# Altium footprint library B-NT_V.PcbLib: 24 footprints (part 1 of 2)
Each footprint in its own frame and in the unit in brackets; x right, y up, seen from the top. Pads: shape width x height; smd on the part's side, far side on the other; paste and mask are expansions set on the pad; w line width, h text height; cw(c..) or ccw(c..) is an arc to the next point about the centre after c.
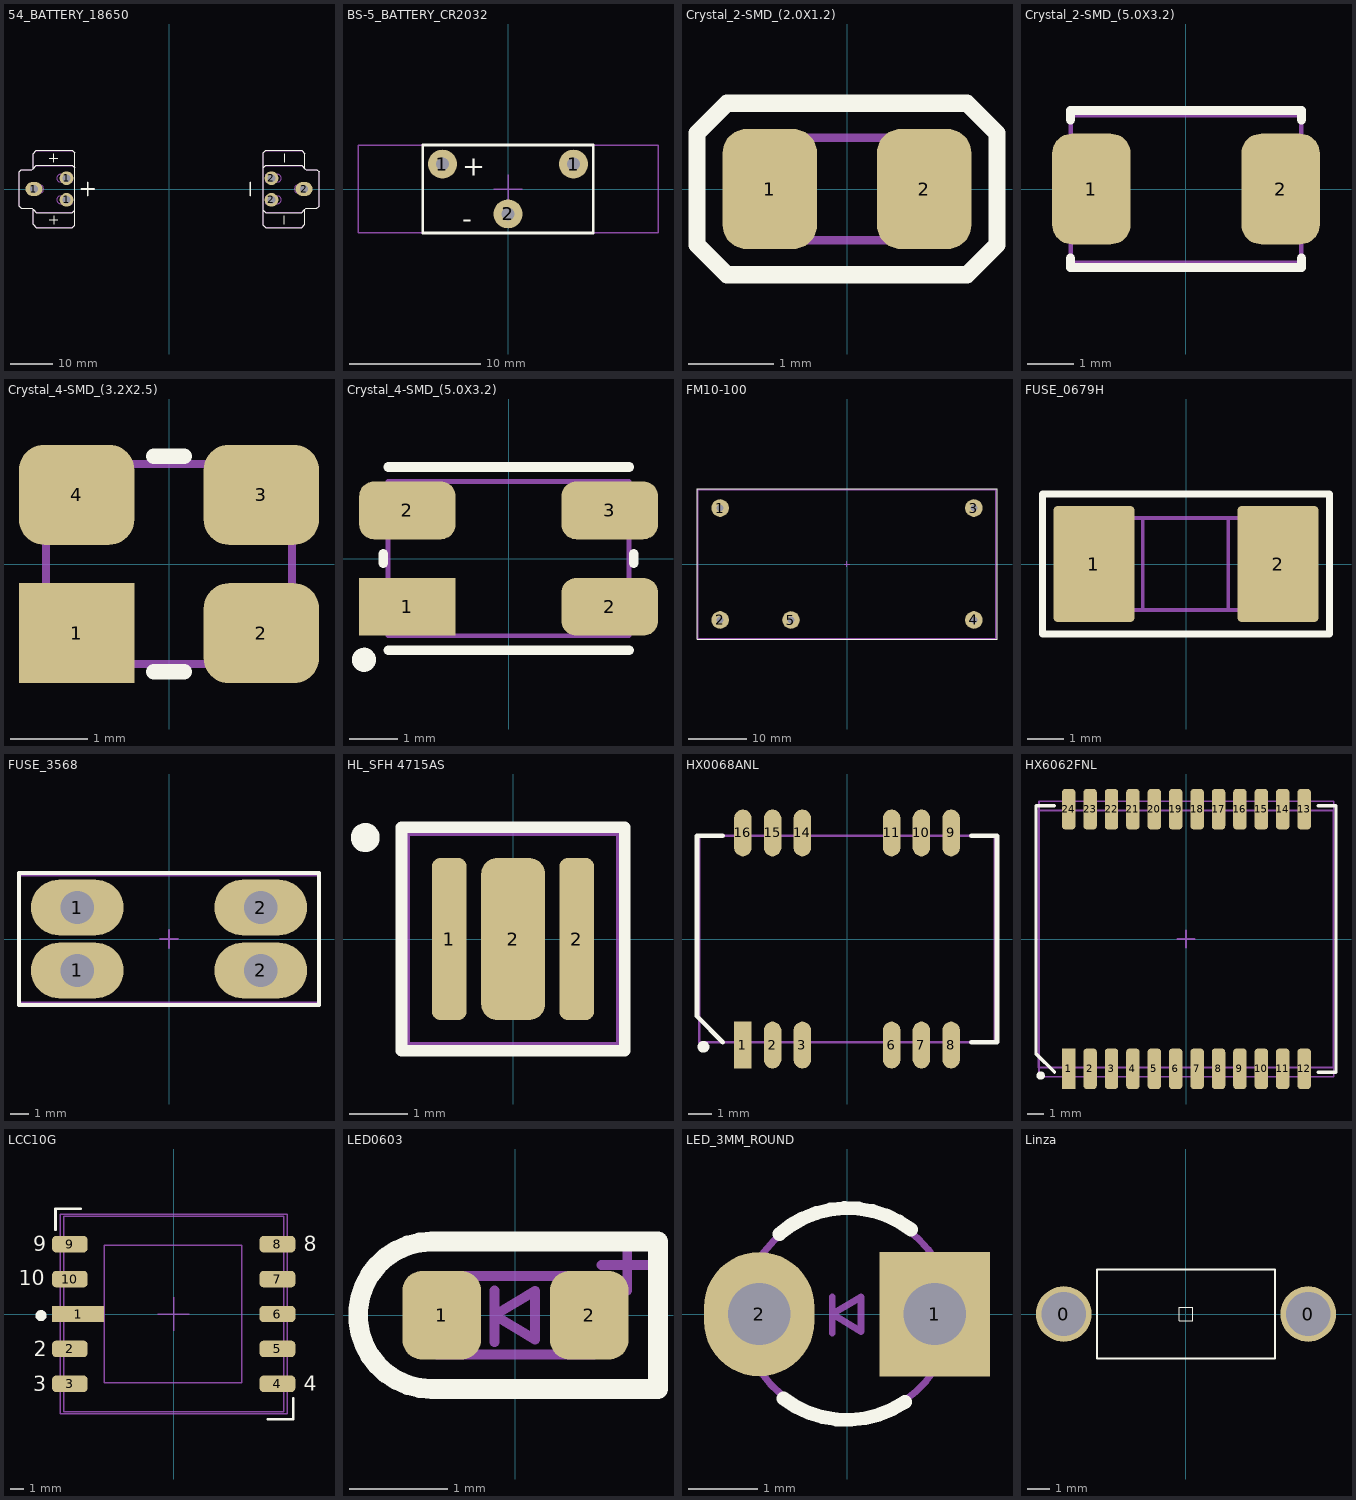
[diagram p0: the footprints below, top view; thin cyan lines are the x and y axes]

## 54_BATTERY_18650 [mm]
pads (6):
  oval 4x3.2 hole 1.8: 1(-31.62,0) 2(31.62,0)
  round 3.2 hole 1.8: 1(-24,-2.54) 1(-24,2.54) 2(24,-2.54) 2(24,2.54)
Top Overlay:
  lines w0.2: -28,-7.25 -26,-7.25 ; -28,7.25 -26,7.25 ; -27,-8.25 -27,-6.25 ; -27,6.25 -27,8.25 ; -22.12,-5 -22.671,-5.551 -31.069,-5.551 -31.82,-4.8 ; -22.12,5 -22.671,5.551 -31.069,5.551 -31.82,4.8 ; 22.12,-5 22.671,-5.551 31.069,-5.551 31.82,-4.8 ; 22.12,5 22.671,5.551 31.069,5.551 31.82,4.8 ; 27,-8.25 27,-6.25 ; 27,6.25 27,8.25 ; -31.82,-4.8 -32.12,-4.5 -34.62,-4.5 -35.127,-3.993 -35.127,3.993 -34.62,4.5 -32.12,4.5 -31.82,4.8 ; -31.82,-4.8 -31.82,-8.3 -31.069,-9.051 -22.671,-9.051 -22.12,-8.5 -22.12,8.5 -22.671,9.051 -31.069,9.051 -31.82,8.3 -31.82,4.8 ; 31.82,-4.8 32.12,-4.5 34.62,-4.5 35.127,-3.993 35.127,3.993 34.62,4.5 32.12,4.5 31.82,4.8 ; 31.82,-4.8 31.82,-8.3 31.069,-9.051 22.671,-9.051 22.12,-8.5 22.12,8.5 22.671,9.051 31.069,9.051 31.82,8.3 31.82,4.8
  lines w0.4: -20.5,0 -17.5,0 ; -19,-1.5 -19,1.5 ; 19,-1.5 19,1.5
M3 Top Assy:
  lines w0.1: -32.42,-0.9 -32.42,0.9 -32.92,0.9 ; -23.22,-1.64 -23.22,-3.44 -22.7,-3.44 ; -23.22,3.44 -23.22,1.64 -22.7,1.64 ; -22.12,-5 -22.62,-5.5 -31.12,-5.5 -31.82,-4.8 ; -22.12,5 -22.62,5.5 -31.12,5.5 -31.82,4.8 ; 22.12,-5 22.62,-5.5 31.12,-5.5 31.82,-4.8 ; 22.12,5 22.62,5.5 31.12,5.5 31.82,4.8 ; 23.22,-3.44 23.22,-1.64 22.7,-1.64 ; 23.22,1.64 23.22,3.44 22.7,3.44 ; 32.42,0.9 32.42,-0.9 32.92,-0.9 ; -32.92,0 -32.92,0 ; -32.92,0 -32.92,0.9 ; -32.92,0 -32.92,-0.9 -30.22,-0.9 ccw(c-30.22,0) -30.22,0.9 -32.92,0.9 ; -31.82,-4.8 -32.12,-4.5 -34.62,-4.5 -35.127,-3.993 -35.127,3.993 -34.62,4.5 -32.12,4.5 -31.82,4.8 ; -31.82,-4.8 -31.82,-8.3 -31.12,-9 -22.62,-9 -22.12,-8.5 -22.12,8.5 -22.62,9 -31.12,9 -31.82,8.3 -31.82,4.8 ; -22.7,-3.44 -22.7,-2.54 ; -22.7,-3.44 -25.4,-3.44 cw(c-25.4,-2.54) -25.4,-1.64 -22.7,-1.64 -22.7,-2.54 ; -22.7,-2.54 -22.7,-2.54 ; -22.7,1.64 -22.7,2.54 ; -22.7,1.64 -25.4,1.64 cw(c-25.4,2.54) -25.4,3.44 -22.7,3.44 -22.7,2.54 ; -22.7,2.54 -22.7,2.54 ; 22.7,-2.54 22.7,-2.54 ; 22.7,-2.54 22.7,-3.44 25.4,-3.44 ccw(c25.4,-2.54) 25.4,-1.64 22.7,-1.64 ; 22.7,-2.54 22.7,-1.64 ; 22.7,2.54 22.7,2.54 ; 22.7,2.54 22.7,1.64 25.4,1.64 ccw(c25.4,2.54) 25.4,3.44 22.7,3.44 ; 22.7,2.54 22.7,3.44 ; 31.82,-4.8 32.12,-4.5 34.62,-4.5 35.127,-3.993 35.127,3.993 34.62,4.5 32.12,4.5 31.82,4.8 ; 31.82,-4.8 31.82,-8.3 31.12,-9 22.62,-9 22.12,-8.5 22.12,8.5 22.62,9 31.12,9 31.82,8.3 31.82,4.8 ; 32.92,-0.9 30.22,-0.9 cw(c30.22,0) 30.22,0.9 32.92,0.9 32.92,0 ; 32.92,-0.9 32.92,0 ; 32.92,0 32.92,0
M8 Top Brd Anno:
  lines w0.1: -32.12,0 -31.12,0 ; -31.62,-0.5 -31.62,0.5 ; 31.12,0 32.12,0 ; 31.62,-0.5 31.62,0.5
3D body "User Library-18650 battery.step": height 19.37, standoff 1.17, extent -32.6,-9.1 32.55,9.1
3D body "keystone-PN54.STEP": height 18.4, standoff -2.95, extent -35.127,-9.051 -22.12,9.051
3D body "keystone-PN54.STEP": height 18.4, standoff -2.95, extent 22.12,-9.051 35.127,9.051

## BS-5_BATTERY_CR2032 [mm]
pads (3):
  round 2.2 hole 1: 1(-5,1.905) 1(5,1.905) 2(0,-1.905)
Top Overlay:
  lines w0.2: -6.5,-3.355 6.5,-3.355 6.5,3.355 -6.5,3.355 -6.5,-3.355
  text "+" at -3.5,1 h1.52
  text "-" at -3.5,-3 h1.52
M3 Top Assy:
  lines w0.1: -6.5,-3.355 -6.5,3.355 ; 6.5,-3.355 6.5,3.355 ; -11.45,-3.355 11.45,-3.355 11.45,3.355 -11.45,3.355 -11.45,-3.355
M8 Top Brd Anno:
  lines w0.1: -1.1,0 1.1,0 ; 0,-1.1 0,1.1 ; -11.45,-3.35 -11.45,3.35 11.45,3.35 11.45,-3.35 -11.45,-3.35
3D body "BS-5.STEP": height 17.88, standoff -3.38, extent -11.455,-3.38 11.455,3.325
3D body "CircuitWorks-BATT CR2032.step": height 26, standoff 6, extent -10,-1.2 10,2

## Crystal_2-SMD_(2.0X1.2) [mm] "Crystal (2.00mm x 1.20mm)"
pads (2):
  rrect50% 1.1x1.4 smd: 1(-0.9,0) 2(0.9,0)
Top Overlay:
  lines w0.2: -1.75,-0.65 -1.75,0.65 -1.4,1 1.4,1 1.75,0.65 1.75,-0.65 1.4,-1 -1.4,-1 -1.75,-0.65
M3 Top Assy:
  lines w0.1: -1,-0.6 1,-0.6 1,0.6 -1,0.6 -1,-0.6
3D body "ABS06.STEP": height 0.61, standoff 0, extent -1.003,-0.597 1.003,0.597

## Crystal_2-SMD_(5.0X3.2) [mm] "Crystal (5.00mm x 3.20mm)"
pads (2):
  rrect50% 1.7x2.4 smd: 1(-2.05,0) 2(2.05,0)
Top Overlay:
  lines w0.2: -2.5,-1.5 -2.5,-1.7 2.5,-1.7 2.5,-1.5 ; -2.5,1.5 -2.5,1.7 2.5,1.7 2.5,1.5
M3 Top Assy:
  lines w0.1: -2.5,-1.6 -2.5,1.6 2.5,1.6 2.5,-1.6 -2.5,-1.6
3D body "ABM3.STEP": height 1.3, standoff 0, extent -2.5,-1.6 2.5,1.6

## Crystal_4-SMD_(3.2X2.5) [mm] "Crystal (3.20mm x 2.50mm)"
pads (4):
  rect 1.5x1.3 smd: 1(-1.2,-0.9)
  rrect50% 1.5x1.3 smd: 2(1.2,-0.9) 3(1.2,0.9) 4(-1.2,0.9)
Top Overlay:
  lines w0.2: -0.2,-1.4 0.2,-1.4 ; -0.2,1.4 0.2,1.4
M3 Top Assy:
  lines w0.1: -1.6,-1.3 1.6,-1.3 1.6,1.3 -1.6,1.3 -1.6,-1.3
3D body "User Library-CTS.step": height 0.77, standoff 0, extent -1.6,-1.25 1.6,1.25

## Crystal_4-SMD_(5.0X3.2) [mm] "Crystal (5.00mm x 3.20mm)"
pads (4):
  rect 2x1.2 smd: 1(-2.1,-1)
  rrect50% 2x1.2 smd: 2(-2.1,1) 2(2.1,-1) 3(2.1,1)
Top Overlay:
  circle w0.25: c-3,-2.1 r0.125
  lines w0.2: -2.6,-0.1 -2.6,0.1 ; -2.5,-1.9 2.5,-1.9 ; -2.5,1.9 2.5,1.9 ; 2.6,-0.1 2.6,0.1
M3 Top Assy:
  lines w0.1: -2.5,-1.6 -2.5,1.6 2.5,1.6 2.5,-1.6 -2.5,-1.6
3D body "ABM3B.STEP": height 1.1, standoff -0.01, extent -2.5,-1.587 2.5,1.588

## FM10-100 [mm]
height 11.7
pads (5):
  round 3 hole 1.2: 1(-21.59,9.525) 2(-21.59,-9.525) 3(21.59,9.525) 4(21.59,-9.525) 5(-9.53,-9.53)
Top Overlay:
  lines w0.2: -25.525,-12.825 -25.525,12.825 25.5,12.825 ; -25.5,-12.825 25.525,-12.825 25.525,12.825
M3 Top Assy:
  lines w0.1: -25.4,-12.7 25.395,-12.7 25.395,12.7 ; -25.395,-12.7 -25.395,12.7 25.4,12.7
M8 Top Brd Anno:
  lines w0.1: -0.5,0 0.5,0 ; 0,-0.5 0,0.5 ; -25.35,-12.65 -25.35,12.65 25.35,12.65 25.35,-12.65 -25.35,-12.65
3D body "FM10-100.STEP": height 11.5, standoff -5.8, extent -25.4,-12.7 25.4,12.7

## FUSE_0679H [mm] "Fuse 0679H9100-05"
pads (2):
  rrect10% 2.2x3.15 smd: 1(-2.5,0) 2(2.5,0)
Top Overlay:
  lines w0.2: -3.9,-1.9 3.9,-1.9 3.9,1.9 -3.9,1.9 -3.9,-1.9
M3 Top Assy:
  lines w0.1: -1.175,-1.25 -1.175,1.25 ; 1.15,-1.25 1.15,1.25 ; -3.05,-1.25 3.05,-1.25 3.05,1.25 -3.05,1.25 -3.05,-1.25
3D body "FUSE HV.STEP": height 2.54, standoff 0, extent -3.05,-1.27 3.05,1.27

## FUSE_3568 [mm] "Fuse 3568 (16x6.73x7.37)"
height 7.37
pads (4):
  oval 5x3 hole 1.8: 1(-4.955,-1.7) 1(-4.955,1.7) 2(4.955,-1.7) 2(4.955,1.7)
Top Overlay:
  lines w0.2: -8.1,-3.565 8.1,-3.565 8.1,3.565 -8.1,3.565 -8.1,-3.565
M3 Top Assy:
  lines w0.1: -8.05,-3.425 -8.05,3.425 8.075,3.425 8.075,-3.425 -8.05,-3.425
M8 Top Brd Anno:
  lines w0.1: -0.5,0 0.5,0 ; 0,-0.5 0,0.5
3D body "3568.STEP": height 7.37, standoff -2.79, extent -8,-3.365 8,3.365

## HL_SFH 4715AS [mm]
pads (3):
  rrect50% 0.6x2.8 smd: 1(-1.1,0) 2(1.1,0)
  rrect50% 1.1x2.8 smd: 2(0,0)
Top Overlay:
  circle w0.25: c-2.55,1.75 r0.125
  lines w0.2: -1.925,-1.925 -1.925,1.925 1.925,1.925 1.925,-1.925 -1.925,-1.925
M3 Top Assy:
  lines w0.1: -1.925,-1.925 -1.925,1.925 1.925,1.925 1.925,-1.925 -1.925,-1.925
M8 Top Brd Anno:
  lines w0.1: -0.5,0 0.5,0 ; 0,-0.5 0,0.5 ; -1.825,-1.825 1.825,-1.825 1.825,1.825 -1.825,1.825 -1.825,-1.825
3D body "диод_SFH 4715AS.STEP": height 2.3, standoff 0, extent -1.925,-1.925 1.925,1.925

## HX0068ANL [mm] "LAN 10/100 BASE-TRANS"
height 2.08
pads (12):
  rect 0.75x2 smd: 1(-4.445,-4.525)
  oval 0.75x2 smd: 2(-3.175,-4.525) 3(-1.905,-4.525) 6(1.905,-4.525) 7(3.175,-4.525) 8(4.445,-4.525) 9(4.445,4.525) 10(3.175,4.525) 11(1.905,4.525) 14(-1.905,4.525) 15(-3.175,4.525) 16(-4.445,4.525)
Top Overlay:
  circle w0.25: c-6.125,-4.6 r0.125
  lines w0.2: -5.3,-4.4 -6.4,-3.3 -6.4,4.4 -5.3,4.4 ; 5.3,-4.4 6.4,-4.4 6.4,4.4 5.3,4.4
M3 Top Assy:
  lines w0.1: -6.3,-4.4 -6.3,4.4 6.3,4.4 6.3,-4.4 -6.3,-4.4
3D body "User Library-HX0068ANL.STEP": height 2.33, standoff -0.04, extent -6.325,-4.826 6.375,4.826

## HX6062FNL [mm] "LAN 10/100/1000 BASE-TRANS"
height 5.72
pads (24):
  rect 0.8x2.4 smd: 1(-6.96,-7.7)
  rrect50% 0.8x2.4 smd: 2(-5.69,-7.7) 3(-4.42,-7.7) 4(-3.15,-7.7) 5(-1.88,-7.7) 6(-0.61,-7.7) 7(0.66,-7.7) 8(1.93,-7.7) 9(3.2,-7.7) 10(4.47,-7.7) 11(5.74,-7.7) 12(7.01,-7.7) 13(7.01,7.7) 14(5.74,7.7) 15(4.47,7.7) 16(3.2,7.7) 17(1.93,7.7) 18(0.66,7.7) 19(-0.61,7.7) 20(-1.88,7.7) 21(-3.15,7.7) 22(-4.42,7.7) 23(-5.69,7.7) 24(-6.96,7.7)
Top Overlay:
  circle w0.25: c-8.625,-8.1 r0.125
  lines w0.2: -7.8,-7.9 -8.9,-6.8 -8.9,7.9 -7.8,7.9 ; 7.85,-7.9 8.9,-7.9 8.9,7.9 7.85,7.9
M3 Top Assy:
  lines w0.1: -8.75,-7.62 8.75,-7.62 8.75,7.62 -8.75,7.62 -8.75,-7.62
M8 Top Brd Anno:
  lines w0.1: -0.5,0 0.5,0 ; 0,-0.5 0,0.5 ; -8.725,-8.175 -8.725,8.175 8.775,8.175 8.775,-8.175 -8.725,-8.175
3D body "HX6062FNL.STEP": height 5.72, standoff 0, extent -8.725,-8.175 8.775,8.175

## LCC10G [mm] "SMD-10,  Body 14,5x16,5mm"
height 2.02
pads (10):
  rect 3.8x1.2 smd: 1(-6.95,0)
  rrect50% 2.6x1.2 smd: 2(-7.55,-2.54) 3(-7.55,-5.08) 4(7.55,-5.08) 5(7.55,-2.54) 6(7.55,0) 7(7.55,2.54) 8(7.55,5.08) 9(-7.55,5.08) 10(-7.55,2.54)
Top Overlay:
  circle w0.4: c-9.65,-0.12 r0.2
  lines w0.2: -8.6,6.125 -8.6,7.65 -6.75,7.65 ; 6.85,-7.65 8.7,-7.65 8.7,-6.15
  text "2" at -10.175,-3.075 h1.1
  text "10" at -11.25,2.1 h1.1
  text "3" at -10.2,-5.625 h1.1
  text "4" at 9.45,-5.6 h1.1
  text "8" at 9.475,4.55 h1.1
  text "9" at -10.225,4.575 h1.1
M3 Top Assy:
  lines w0.1: 8.25,-5.6 6.45,-5.6 6.45,-4.6 8.25,-4.6 ; -8.25,-7.25 -8.25,7.25 8.25,7.25 8.25,-7.25 -8.25,-7.25 ; -8.25,-5.575 -6.45,-5.575 -6.45,-4.575 -8.25,-4.575 -8.25,-5.575 ; -8.25,-3.02 -8.25,-2.02 -6.45,-2.02 -6.45,-3.02 -8.25,-3.02 ; -8.25,-0.48 -5.25,-0.48 -5.25,0.52 -8.25,0.52 -8.25,-0.48 ; -8.25,2.06 -6.45,2.06 -6.45,3.06 -8.25,3.06 -8.25,2.06 ; -8.25,4.6 -6.45,4.6 -6.45,5.6 -8.25,5.6 -8.25,4.6 ; -5.05,-5 4.95,-5 4.95,5 -5.05,5 -5.05,-5 ; 6.45,-3.045 8.25,-3.045 8.25,-2.045 6.45,-2.045 6.45,-3.045 ; 6.45,-0.505 6.45,0.495 8.25,0.495 8.25,-0.505 6.45,-0.505 ; 6.45,2.035 6.45,3.035 8.25,3.035 8.25,2.035 6.45,2.035 ; 6.45,4.575 6.45,5.575 8.25,5.575 8.25,4.575 6.45,4.575
M8 Top Brd Anno:
  lines w0.1: -1.15,0 1.15,0 ; 0,-1.225 0,1.225 ; -8,-7.1 8,-7.1 8,7.1 -8,7.1 -8,-7.1
3D body: height 1, standoff 0, extent -8.25,-7.25 8.25,7.25
3D body: height 0.25, standoff 0, extent -8.1,-7.225 -8.1,-7.225
3D body: height 2.02, standoff 0, extent -8,-7.1 8,7.1

## LED0603 [mm]
pads (2):
  rrect50% 0.8x0.9 smd: 1(-0.75,0) 2(0.75,0)
Top Overlay:
  lines w0.2: -0.85,-0.75 cw(c-0.85,0) -0.85,0.75 1.45,0.75 1.45,-0.75 -0.85,-0.75
M3 Top Assy:
  lines w0.1: -0.5,-0.4 -0.5,0.4 ; -0.213,-0.275 -0.213,0.25 ; 0.201,-0.249 0.201,0.248 -0.213,0 0.202,-0.249 ; 0.5,-0.4 0.5,0.4 ; 0.875,0.512 1.4,0.512 ; 1.138,0.25 1.138,0.775 ; -0.8,-0.4 0.8,-0.4 0.8,0.4 -0.8,0.4 -0.8,-0.4
3D body "AP1608.STEP": height 1.1, standoff 0, extent -0.8,-0.4 0.8,0.4

## LED_3MM_ROUND [mm]
pads (2):
  rect 1.6x1.8 hole 0.9: 1(1.27,0)
  oval 1.6x1.8 hole 0.9: 2(-1.27,0)
Top Overlay:
  lines w0.2: -0.978,1.161 cw(c0.013,0.034) 0.925,1.225 ; -0.918,-1.221 ccw(c-0.006,-0.03) 0.838,-1.27
M3 Top Assy:
  lines w0.1: -0.213,-0.275 -0.213,0.25 ; 0.201,-0.249 0.201,0.248 -0.213,0 0.202,-0.249 ; 1.366,-0.621 cw(c0,0) 1.384,0.579 ; 1.375,-0.625 1.375,0.575
3D body "User Library-led 3mm white.STEP": height 6.68, standoff -0.8, extent -1.664,-1.653 1.55,1.644

## Linza [mm] "Линза в оправке, крепление на 2 винтах М2"
height 6
pads (2):
  round 2.5 hole 2: 0(-5.5,0) 0(5.5,0)
Top Overlay:
  lines w0.05: -0.3,-0.3 -0.3,0.3 0.3,0.3 0.3,-0.3 -0.3,-0.3
  lines w0.1: -4,-2 4,-2 4,2 -4,2 -4,-2
3D body "?????1.STEP": height 5.96, standoff 0.01, extent -7.5,-2.3 7.5,2.3